# Altium footprint library JS202011AQN - Slide Switch.PcbLib: 1 footprints
Each footprint in its own frame and in the unit in brackets; x right, y up, seen from the top. Pads: shape width x height; smd on the part's side, far side on the other; paste and mask are expansions set on the pad; w line width, h text height; cw(c..) or ccw(c..) is an arc to the next point about the centre after c.
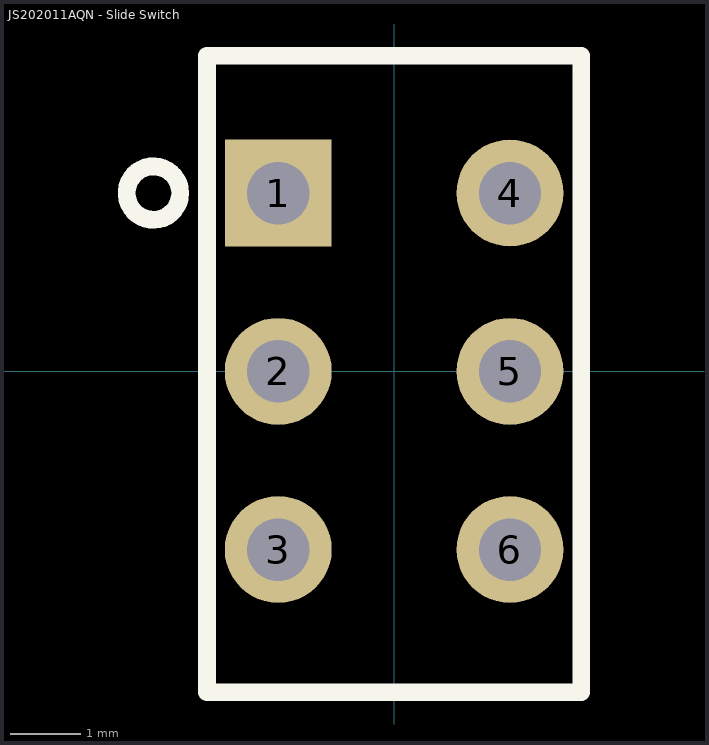
[diagram p0: the footprint, top view; thin cyan lines are the x and y axes]

## JS202011AQN - Slide Switch [mil]
pads (6):
  rect 60x60 hole 35: 1(-65,100)
  round 60 hole 35: 2(-65,0) 3(-65,-100) 4(65,100) 5(65,0) 6(65,-100)
Top Overlay:
  circle w10: c-135,100 r15
  lines w10: -105,-180 -105,177 105,177 105,-180 -105,-180
3D body "JS202011AQN - Slide Switch v1.step": height 138.58, standoff -117.32, extent -147.64,-178.15 72.83,176.18
3D body: height 90.55, standoff -23.62, extent 127.95,-37.4 127.95,-37.4